# Altium footprint library SON - SmallOutlineNo-lead.PcbLib: 10 footprints
Each footprint in its own frame and in the unit in brackets; x right, y up, seen from the top. Pads: shape width x height; smd on the part's side, far side on the other; paste and mask are expansions set on the pad; w line width, h text height; cw(c..) or ccw(c..) is an arc to the next point about the centre after c.
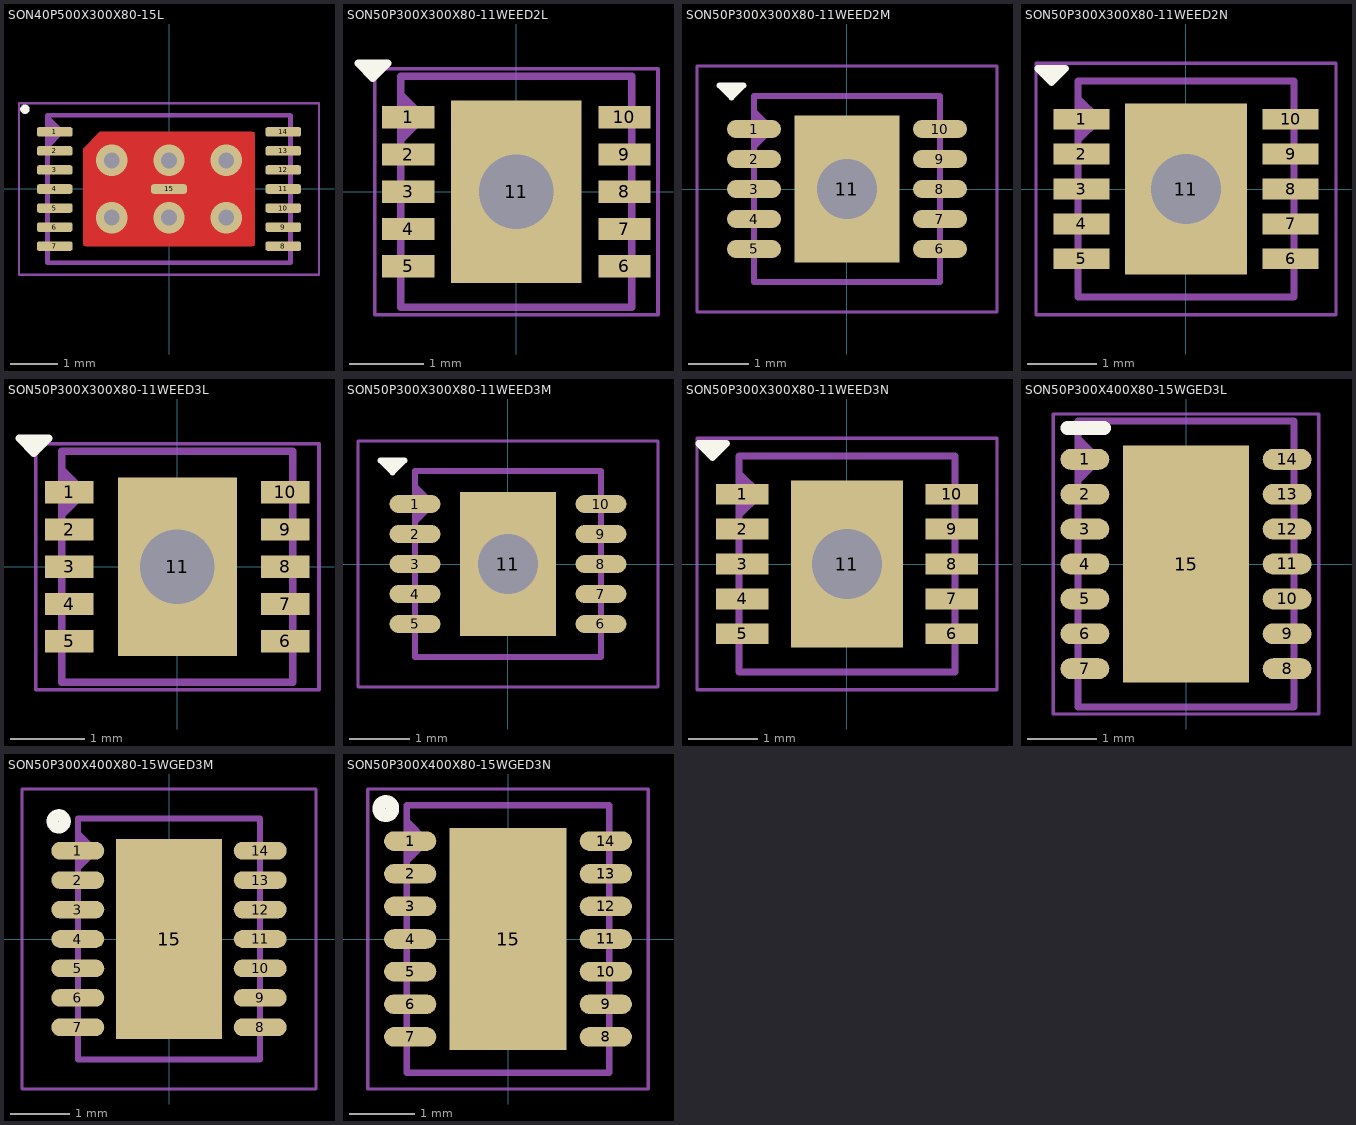
[diagram p0: the footprints below, top view; thin cyan lines are the x and y axes]

## SON40P500X300X80-15L [mm] "SON,0.40mm,pitch;14 pin,5.00mm W X 3.00mm L X 0.80mm H body (w/thermal tab), IPC High Density"
height 0.8
pads (15):
  rrect50% 0.75x0.2 smd mask+0.05: 1(-2.4,1.2) 2(-2.4,0.8) 3(-2.4,0.4) 4(-2.4,0) 5(-2.4,-0.4) 6(-2.4,-0.8) 7(-2.4,-1.2) 8(2.4,-1.2) 9(2.4,-0.8) 10(2.4,-0.4) 11(2.4,0) 12(2.4,0.4) 13(2.4,0.8) 14(2.4,1.2) 15(0,0)
via -1.2,0.6 diameter 0.66 hole 0.33
via 0,0.6 diameter 0.66 hole 0.33
via 1.2,0.6 diameter 0.66 hole 0.33
via -1.2,-0.6 diameter 0.66 hole 0.33
via 0,-0.6 diameter 0.66 hole 0.33
via 1.2,-0.6 diameter 0.66 hole 0.33
Top Layer:
  region: -1.8,0.85 -1.45,1.2 1.75,1.204 1.788,1.188 1.804,1.15 1.8,1.15 1.804,-1.15 1.788,-1.188 1.75,-1.204 1.75,-1.2 -1.75,-1.204 -1.788,-1.188 -1.804,-1.15 -1.8,-1.15
Top Overlay:
  circle w0.1: c-3.025,1.675 r0.05
Top Paste:
  region: -1.277,0.677 1.276,0.677 1.276,-0.676 -1.277,-0.676
Top Solder:
  region: -1.8,0.85 -1.45,1.2 1.75,1.204 1.788,1.188 1.804,1.15 1.8,1.15 1.804,-1.15 1.788,-1.188 1.75,-1.204 1.75,-1.2 -1.75,-1.204 -1.788,-1.188 -1.804,-1.15 -1.8,-1.15
TopBody:
  lines w0.1: -2.55,0.9 -2.25,1.2 -2.55,1.5 ; -2.55,1 -2.35,1.2 -2.55,1.4 ; -2.55,1.1 -2.45,1.2 -2.55,1.3 ; -2.55,-1.55 -2.55,1.55 2.55,1.55 2.55,-1.55 -2.55,-1.55
TopCourtyard:
  lines w0.05: -0.5,0 0,0 ; 0,-0.5 0,0 ; 0,0.5 0,0 ; 0.5,0 0,0 ; -3.15,-1.8 -3.15,1.8 3.15,1.8 3.15,-1.8 -3.15,-1.8
3D body: height 0.8, standoff 0.1, extent -2.55,-1.55 2.55,1.55

## SON50P300X300X80-11WEED2L [mm] "SON, 0.50mm pitch, 10-Leads, Body 3.1x3.1x0.8mm (max) (w/thermal tab), IPC High Density"
height 0.8
pads (11):
  rect 0.7x0.3 smd: 1(-1.45,1) 2(-1.45,0.5) 3(-1.45,0) 4(-1.45,-0.5) 5(-1.45,-1) 6(1.45,-1) 7(1.45,-0.5) 8(1.45,0) 9(1.45,0.5) 10(1.45,1)
  rect 1.75x2.45 / inner round 1.4 / far side round 1.6 hole 1: 11(0,0)
Top Overlay:
  lines w0.1: -2.025,1.725 -1.925,1.625 -1.825,1.725 ; -2.125,1.725 -1.725,1.725 -1.925,1.525 -2.125,1.725
TopBody:
  lines w0.1: -1.55,0.7 -1.25,1 -1.55,1.3 ; -1.55,0.8 -1.35,1 -1.55,1.2 ; -1.55,0.9 -1.45,1 -1.55,1.1 ; -1.55,-1.55 -1.55,1.55 1.55,1.55 1.55,-1.55 -1.55,-1.55
TopCourtyard:
  lines w0.05: -0.5,0 0.5,0 ; 0,-0.5 0,0.5 ; -1.9,-1.65 -1.9,1.65 1.9,1.65 1.9,-1.65 -1.9,-1.65
3D body: height 0.8, standoff 0, extent -1.55,-1.55 1.55,1.55

## SON50P300X300X80-11WEED2M [mm] "SON, 0.50mm pitch, 10-Leads, Body 3.1x3.1x0.8mm (max) (w/thermal tab), IPC Low Density"
height 0.8
pads (11):
  oval 0.9x0.3 smd: 1(-1.55,1) 2(-1.55,0.5) 3(-1.55,0) 4(-1.55,-0.5) 5(-1.55,-1) 6(1.55,-1) 7(1.55,-0.5) 8(1.55,0) 9(1.55,0.5) 10(1.55,1)
  rect 1.75x2.45 / inner round 1.4 / far side round 1.6 hole 1: 11(0,0)
Top Overlay:
  lines w0.1: -2.025,1.725 -1.925,1.625 -1.825,1.725 ; -2.125,1.725 -1.925,1.525 -1.725,1.725 -2.125,1.725
TopBody:
  lines w0.1: -1.55,0.7 -1.25,1 -1.55,1.3 ; -1.55,0.8 -1.35,1 -1.55,1.2 ; -1.55,0.9 -1.45,1 -1.55,1.1 ; -1.55,-1.55 1.55,-1.55 1.55,1.55 -1.55,1.55 -1.55,-1.55
TopCourtyard:
  lines w0.05: -0.5,0 0.5,0 ; 0,-0.5 0,0.5 ; -2.5,-2.05 2.5,-2.05 2.5,2.05 -2.5,2.05 -2.5,-2.05
3D body: height 0.8, standoff 0, extent -1.55,-1.55 1.55,1.55

## SON50P300X300X80-11WEED2N [mm] "SON, 0.50mm pitch, 10-Leads, Body 3.1x3.1x0.8mm (max) (w/thermal tab), IPC Medium Density"
height 0.8
pads (11):
  rect 0.8x0.3 smd: 1(-1.5,1) 2(-1.5,0.5) 3(-1.5,0) 4(-1.5,-0.5) 5(-1.5,-1) 6(1.5,-1) 7(1.5,-0.5) 8(1.5,0) 9(1.5,0.5) 10(1.5,1)
  rect 1.75x2.45 / inner round 1.4 / far side round 1.6 hole 1: 11(0,0)
Top Overlay:
  lines w0.1: -2.025,1.725 -1.925,1.625 -1.825,1.725 ; -2.125,1.725 -1.725,1.725 -1.925,1.525 -2.125,1.725
TopBody:
  lines w0.1: -1.55,0.7 -1.25,1 -1.55,1.3 ; -1.55,0.8 -1.35,1 -1.55,1.2 ; -1.55,0.9 -1.45,1 -1.55,1.1 ; -1.55,-1.55 -1.55,1.55 1.55,1.55 1.55,-1.55 -1.55,-1.55
TopCourtyard:
  lines w0.05: -0.5,0 0.5,0 ; 0,-0.5 0,0.5 ; -2.15,-1.8 -2.15,1.8 2.15,1.8 2.15,-1.8 -2.15,-1.8
3D body: height 0.8, standoff 0, extent -1.55,-1.55 1.55,1.55

## SON50P300X300X80-11WEED3L [mm] "SON, 0.50mm pitch, 10-Leads, Body 3.1x3.1x0.8mm (max) (w/thermal tab), IPC High Density"
height 0.8
pads (11):
  rect 0.65x0.3 smd: 1(-1.45,1) 2(-1.45,0.5) 3(-1.45,0) 4(-1.45,-0.5) 5(-1.45,-1) 6(1.45,-1) 7(1.45,-0.5) 8(1.45,0) 9(1.45,0.5) 10(1.45,1)
  rect 1.6x2.4 / inner round 1.4 / far side round 1.6 hole 1: 11(0,0)
Top Overlay:
  lines w0.1: -2.025,1.725 -1.925,1.625 -1.825,1.725 ; -2.125,1.725 -1.725,1.725 -1.925,1.525 -2.125,1.725
TopBody:
  lines w0.1: -1.55,0.7 -1.25,1 -1.55,1.3 ; -1.55,0.8 -1.35,1 -1.55,1.2 ; -1.55,0.9 -1.45,1 -1.55,1.1 ; -1.55,-1.55 1.55,-1.55 1.55,1.55 -1.55,1.55 -1.55,-1.55
TopCourtyard:
  lines w0.05: -0.5,0 0.5,0 ; 0,-0.5 0,0.5 ; -1.9,-1.65 1.9,-1.65 1.9,1.65 -1.9,1.65 -1.9,-1.65
3D body: height 0.8, standoff 0, extent -1.55,-1.55 1.55,1.55

## SON50P300X300X80-11WEED3M [mm] "SON, 0.50mm pitch, 10-Leads, Body 3.1x3.1x0.8mm (max) (w/thermal tab), IPC Low Density"
height 0.8
pads (11):
  oval 0.85x0.3 smd: 1(-1.55,1) 2(-1.55,0.5) 3(-1.55,0) 4(-1.55,-0.5) 5(-1.55,-1) 6(1.55,-1) 7(1.55,-0.5) 8(1.55,0) 9(1.55,0.5) 10(1.55,1)
  rect 1.6x2.4 / inner round 1.4 / far side round 1.6 hole 1: 11(0,0)
Top Overlay:
  lines w0.1: -2.025,1.725 -1.925,1.625 -1.825,1.725 ; -2.125,1.725 -1.725,1.725 -1.925,1.525 -2.125,1.725
TopBody:
  lines w0.1: -1.55,0.7 -1.25,1 -1.55,1.3 ; -1.55,0.8 -1.35,1 -1.55,1.2 ; -1.55,0.9 -1.45,1 -1.55,1.1 ; -1.55,-1.55 -1.55,1.55 1.55,1.55 1.55,-1.55 -1.55,-1.55
TopCourtyard:
  lines w0.05: -0.5,0 0.5,0 ; 0,-0.5 0,0.5 ; -2.5,-2.05 -2.5,2.05 2.5,2.05 2.5,-2.05 -2.5,-2.05
3D body: height 0.8, standoff 0, extent -1.55,-1.55 1.55,1.55

## SON50P300X300X80-11WEED3N [mm] "SON, 0.50mm pitch, 10-Leads, Body 3.1x3.1x0.8mm (max) (w/thermal tab), IPC Medium Density"
height 0.8
pads (11):
  rect 0.75x0.3 smd: 1(-1.5,1) 2(-1.5,0.5) 3(-1.5,0) 4(-1.5,-0.5) 5(-1.5,-1) 6(1.5,-1) 7(1.5,-0.5) 8(1.5,0) 9(1.5,0.5) 10(1.5,1)
  rect 1.6x2.4 / inner round 1.4 / far side round 1.6 hole 1: 11(0,0)
Top Overlay:
  lines w0.1: -2.025,1.725 -1.925,1.625 -1.825,1.725 ; -2.125,1.725 -1.725,1.725 -1.925,1.525 -2.125,1.725
TopBody:
  lines w0.1: -1.55,0.7 -1.25,1 -1.55,1.3 ; -1.55,0.8 -1.35,1 -1.55,1.2 ; -1.55,0.9 -1.45,1 -1.55,1.1 ; -1.55,-1.55 -1.55,1.55 1.55,1.55 1.55,-1.55 -1.55,-1.55
TopCourtyard:
  lines w0.05: -0.5,0 0.5,0 ; 0,-0.5 0,0.5 ; -2.15,-1.8 -2.15,1.8 2.15,1.8 2.15,-1.8 -2.15,-1.8
3D body: height 0.8, standoff 0, extent -1.55,-1.55 1.55,1.55

## SON50P300X400X80-15WGED3L [mm] "SON, 0.50mm pitch, 14-Leads, Body 3.1x4.1x0.8mm (max) (w/thermal tab), IPC High Density"
height 0.8
pads (15):
  oval 0.7x0.3 smd: 1(-1.45,1.5) 2(-1.45,1) 3(-1.45,0.5) 4(-1.45,0) 5(-1.45,-0.5) 6(-1.45,-1) 7(-1.45,-1.5) 8(1.45,-1.5) 9(1.45,-1) 10(1.45,-0.5) 11(1.45,0) 12(1.45,0.5) 13(1.45,1) 14(1.45,1.5)
  rect 1.8x3.4 smd: 15(0,0)
Top Overlay:
  lines w0.2: -1.7,1.95 -1.175,1.95
TopBody:
  lines w0.1: -1.55,1.2 -1.25,1.5 -1.55,1.8 ; -1.55,1.3 -1.35,1.5 -1.55,1.7 ; -1.55,1.4 -1.45,1.5 -1.55,1.6 ; -1.55,-2.05 1.55,-2.05 1.55,2.05 -1.55,2.05 -1.55,-2.05
TopCourtyard:
  lines w0.05: -0.5,0 0,0 ; 0,-0.5 0,0 ; 0,0.5 0,0 ; 0.5,0 0,0 ; -1.9,-2.15 -1.9,2.15 1.9,2.15 1.9,-2.15 -1.9,-2.15
3D body: height 0.8, standoff 0, extent -1.55,-2.05 1.55,2.05

## SON50P300X400X80-15WGED3M [mm] "SON, 0.50mm pitch, 14-Leads, Body 3.1x4.1x0.8mm (max) (w/thermal tab), IPC Low Density"
height 0.8
pads (15):
  oval 0.9x0.3 smd: 1(-1.55,1.5) 2(-1.55,1) 3(-1.55,0.5) 4(-1.55,0) 5(-1.55,-0.5) 6(-1.55,-1) 7(-1.55,-1.5) 8(1.55,-1.5) 9(1.55,-1) 10(1.55,-0.5) 11(1.55,0) 12(1.55,0.5) 13(1.55,1) 14(1.55,1.5)
  rect 1.8x3.4 smd: 15(0,0)
Top Overlay:
  circle w0.2: c-1.875,2 r0.106
TopBody:
  lines w0.1: -1.55,1.2 -1.25,1.5 -1.55,1.8 ; -1.55,1.3 -1.35,1.5 -1.55,1.7 ; -1.55,1.4 -1.45,1.5 -1.55,1.6 ; -1.55,-2.05 -1.55,2.05 1.55,2.05 1.55,-2.05 -1.55,-2.05
TopCourtyard:
  lines w0.05: -0.5,0 0,0 ; 0,-0.5 0,0 ; 0,0.5 0,0 ; 0.5,0 0,0 ; -2.5,-2.55 -2.5,2.55 2.5,2.55 2.5,-2.55 -2.5,-2.55
3D body: height 0.8, standoff 0, extent -1.55,-2.05 1.55,2.05

## SON50P300X400X80-15WGED3N [mm] "SON, 0.50mm pitch, 14-Leads, Body 3.1x4.1x0.8mm (max) (w/thermal tab), IPC Medium Density"
height 0.8
pads (15):
  oval 0.8x0.3 smd: 1(-1.5,1.5) 2(-1.5,1) 3(-1.5,0.5) 4(-1.5,0) 5(-1.5,-0.5) 6(-1.5,-1) 7(-1.5,-1.5) 8(1.5,-1.5) 9(1.5,-1) 10(1.5,-0.5) 11(1.5,0) 12(1.5,0.5) 13(1.5,1) 14(1.5,1.5)
  rect 1.8x3.4 smd: 15(0,0)
Top Overlay:
  circle w0.2: c-1.875,2 r0.106
TopBody:
  lines w0.1: -1.55,1.2 -1.25,1.5 -1.55,1.8 ; -1.55,1.3 -1.35,1.5 -1.55,1.7 ; -1.55,1.4 -1.45,1.5 -1.55,1.6 ; -1.55,-2.05 -1.55,2.05 1.55,2.05 1.55,-2.05 -1.55,-2.05
TopCourtyard:
  lines w0.05: -0.5,0 0,0 ; 0,-0.5 0,0 ; 0,0.5 0,0 ; 0.5,0 0,0 ; -2.15,-2.3 2.15,-2.3 2.15,2.3 -2.15,2.3 -2.15,-2.3
3D body: height 0.8, standoff 0, extent -1.55,-2.05 1.55,2.05